# Altium integrated library Infineon_Microcontroller.IntLib: 721 symbols (part 32 of 66)
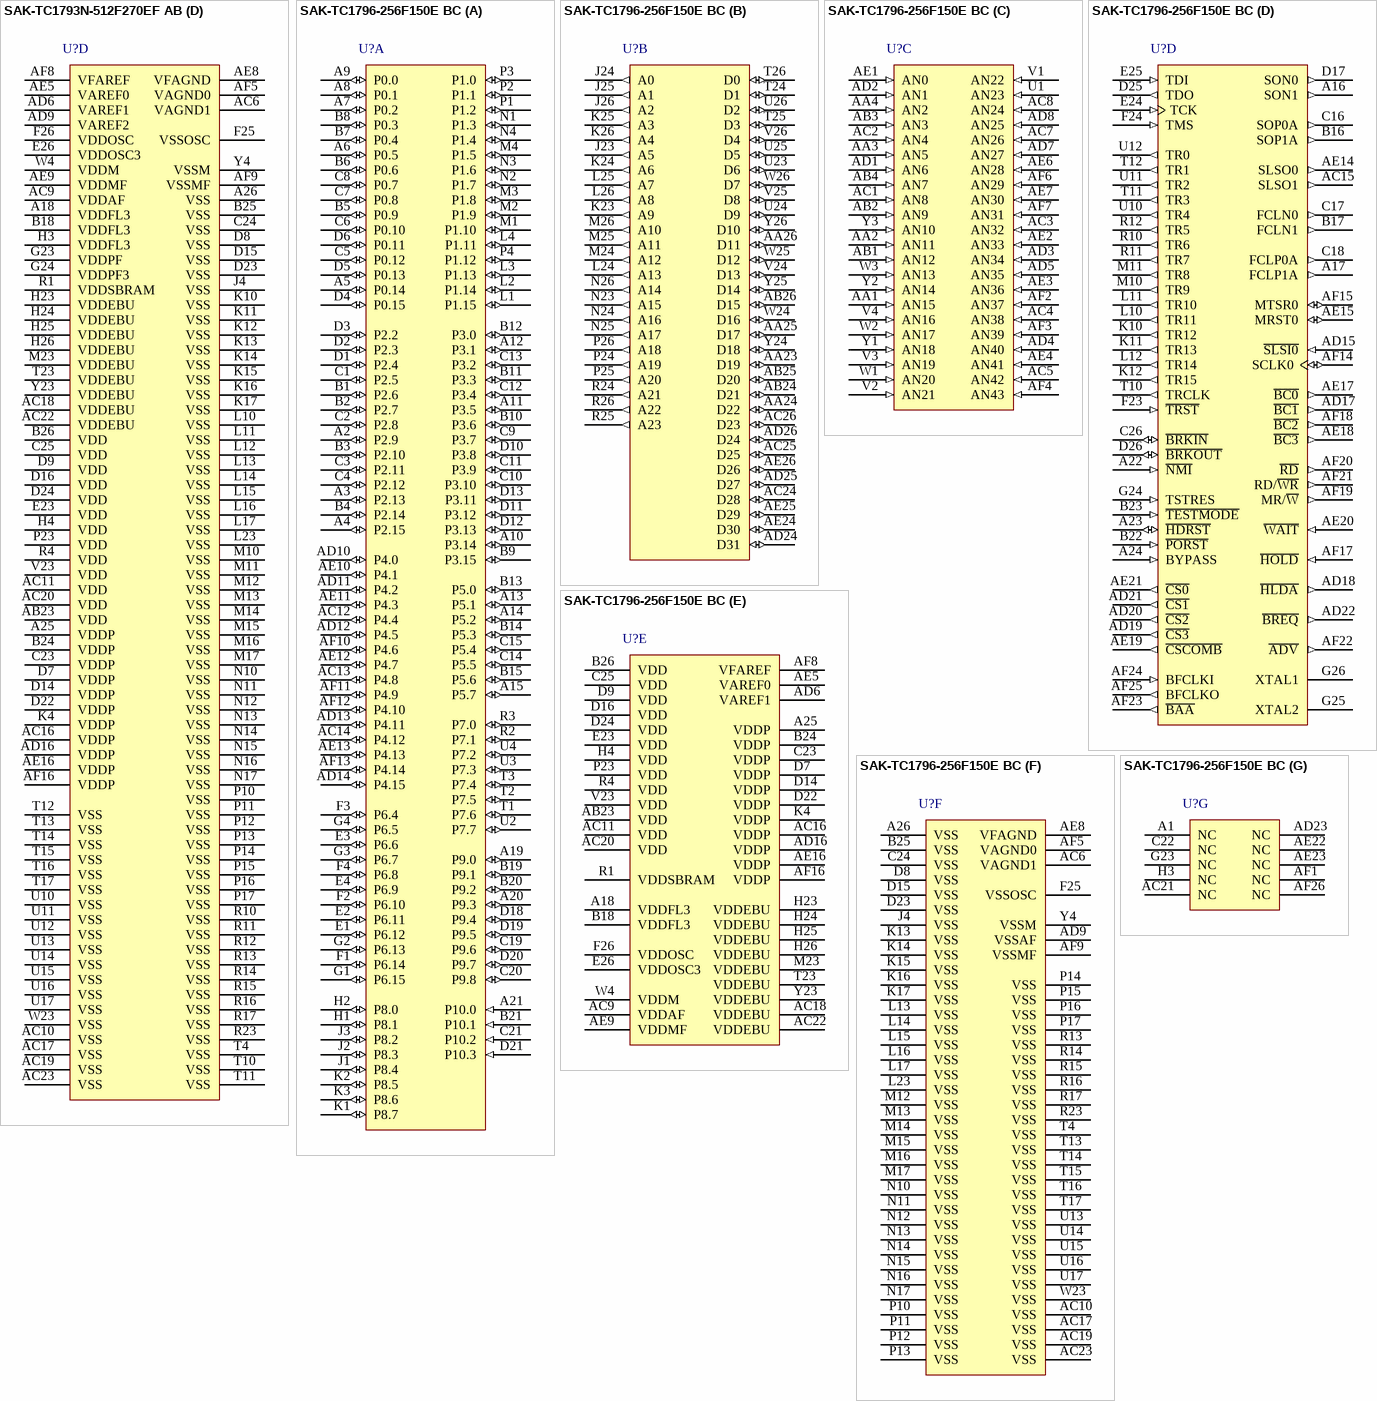
[diagram p149: symbols SAK-TC1793N-512F270EF AB to SAK-TC1796-256F150E BC]

## SAK-TC1793N-512F270EF AB
designator U?
270 MHz AUDO MCU with 4 MB Program Memory, 288 KByte SRAM, 3.3 V, -40 to 125 degC, PG-BGA-416, Reel, Green; Manufacturer: Infineon; PartNumber: SAK-TC1793N-512F270EF AB; A / D input lines (incl. FADC): 44; CAN Nodes: 4; Digital I/O Lines: 221; DMA Channels: 24; DSP functionality (e.g MDU/MAC): TRUE; FlexRay TM: FALSE; I/O Operation Voltages: 3.3 V; Instruction set architecture: TriCore v1.6; Instruction width [bits]: 32/16; LIN BSL loader (for fast Flash programming): FALSE; Max Clock Frequency: 270 MHz; Number of ADC Modules: 3; Program Memory: 4 MB; Serial I/O Interfaces: 9; Timed I/O Pins (PWM-Ch,CAPCOM): 112; Timer / Counter: 246; Type of Memory: Flash; Type of Serial I/O Interfaces: ASC(2), SSC(3), MSC(2), MLI(2); DatasheetVersion: Rev. 1.1.1; PackageVersion: V1.1.1, 12/2012; PackageReference: PG-BGA-416-22; PackageDescription: 416-Pin Plastic (Green) Ball Grid Array Package, Body 27 x 27 mm, Pitch 1 mm; E2PROM Emulation (Data-Flash): TRUE; External Bus interface: TRUE; Floating Point Unit: TRUE; Green: TRUE; Halogen-free: TRUE; On-chip clock generation: TRUE; On-chip Voltage Regulator: FALSE; Oscillator Watchdog: TRUE; Packing: Reel; Peripheral Control Processor (PCP): TRUE; Power Modes: 3; SRAM (incl. Cache): 288 KByte; Watchdog Timer: TRUE; Mounting Technology: Surface Mount; Code_JEDEC: J-STD-020C; ComponentLink1Description: Manufacturer URL; ComponentLink1URL: http://www.infineon.com/; ComponentLink2Description: Datasheet; ComponentLink2URL: http://www.infineon.com/dgdl/TC1793_DS_v111_.pdf?folderId=db3a304326dfb1300127000d958f65bb&fileId=db3a304333227b5e013368d702f5176b; ComponentLink3Description: Package Specification; ComponentLink3URL: http://www.infineon.com/dgdl/TC1793_DS_v111_.pdf?folderId=db3a304326dfb1300127000d958f65bb&fileId=db3a304333227b5e013368d702f5176b
footprint INF-PG-BGA-416-22 (BGA, 416-Balls, Body 27x27mm, Pitch 1mm)
part A pins: A2 P2.9 (io), A3 P2.13 (io), A4 P2.15 (io), A5 P0.14 (io), A6 P0.5 (io), A7 P0.2 (io), A8 P0.1 (io), A9 P0.0 (io), A10 P3.14 (io), A11 P3.5 (io), A12 P3.1 (io), A13 P5.1 (io), A14 P5.2 (io), A15 P5.7 (io), A16 P5.12 (io), A17 P5.15 (io), A19 P9.0 (io), A20 P9.3 (io), A21 P9.9 (io), AC12 P4.4 (io), AC13 P4.8 (io), AC14 P4.12 (io), AD10 P4.0 (io), AD11 P4.2 (io), AD12 P4.5 (io), AD13 P4.11 (io), AD14 P4.15 (io), AE10 P4.1 (io), AE11 P4.3 (io), AE12 P4.7 (io), AE13 P4.13 (io), AF10 P4.6 (io), AF11 P4.9 (io), AF12 P4.10 (io), AF13 P4.14 (io), B1 P2.6 (io), B2 P2.7 (io), B3 P2.10 (io), B4 P2.14 (io), B5 P0.9 (io), B6 P0.6 (io), B7 P0.4 (io), B8 P0.3 (io), B9 P3.15 (io), B10 P3.6 (io), B11 P3.3 (io), B12 P3.0 (io), B13 P5.0 (io), B14 P5.3 (io), B15 P5.6 (io), B16 P5.13 (io), B17 P5.14 (io), B19 P9.1 (io), B20 P9.2 (io), B21 P9.10 (io), C1 P2.5 (io), C2 P2.8 (io), C3 P2.11 (io), C4 P2.12 (io), C5 P0.12 (io), C6 P0.10 (io), C7 P0.8 (io), C8 P0.7 (io), C9 P3.7 (io), C10 P3.10 (io), C11 P3.9 (io), C12 P3.4 (io), C13 P3.2 (io), C14 P5.5 (io), C15 P5.4 (io), C16 P5.9 (io), C17 P5.10 (io), C18 P5.11 (io), C19 P9.6 (io), C20 P9.8 (io), C21 P9.11 (io), C26 P9.13 (io), D1 P2.4 (io), D2 P2.3 (io), D3 P2.2 (io), D4 P0.15 (io), D5 P0.13 (io), D6 P0.11 (io), D10 P3.8 (io), D11 P3.12 (io), D12 P3.13 (io), D13 P3.11 (io), D17 P5.8 (io), D18 P9.4 (io), D19 P9.5 (io), D20 P9.7 (io), D21 P9.12 (io), D26 P9.14 (io), E1 P6.12 (io), E2 P6.11 (io), E3 P6.6 (io), E4 P6.9 (io), F1 P6.14 (io), F2 P6.10 (io), F3 P6.4 (io), F4 P6.8 (io), G1 P6.15 (io), G2 P6.13 (io), G3 P6.7 (io), G4 P6.5 (io), H1 P8.1 (io), H2 P8.0 (io), J1 P8.4 (io), J2 P8.3 (io), J3 P8.2 (io), K1 P8.7 (io), K2 P8.5 (io), K3 P8.6 (io), L1 P1.15 (io), L2 P1.14 (io), L3 P1.13 (io), L4 P1.11 (io), M1 P1.10 (io), M2 P1.9 (io), M3 P1.8 (io), M4 P1.5 (io), N1 P1.3 (io), N2 P1.7 (io), N3 P1.6 (io), N4 P1.4 (io), P1 P1.2 (io), P2 P1.1 (io), P3 P1.0 (io), P4 P1.12 (io), R2 P7.1 (io), R3 P7.0 (io), T1 P7.6 (io), T2 P7.5 (io), T3 P7.4 (io), U2 P7.7 (io), U3 P7.3 (io), U4 P7.2 (io)
part B pins: AA1 P17.7/AN15 (in), AA2 P17.3/AN11 (in), AA23 P14.3 (io), AA24 P14.6 (io), AA25 P14.1 (io), AA26 P13.11 (io), AB1 P17.4/AN12 (in), AB2 P17.1/AN9 (in), AB24 P14.5 (io), AB25 P14.4 (io), AB26 P13.15 (io), AC1 P17.0/AN8 (in), AC4 P17.10/AN38 (in), AC5 P17.14/AN42 (in), AC15 P10.5 (io), AC24 P14.12 (io), AC25 P14.9 (io), AC26 P14.7 (io), AD4 P17.12/AN40 (in), AD15 P10.2 (io), AD17 P15.5 (io), AD18 P16.1 (io), AD19 P15.3 (io), AD20 P15.2 (io), AD21 P15.1 (io), AD22 P16.2 (io), AD24 P14.15 (io), AD25 P14.11 (io), AD26 P14.8 (io), AE3 P17.8/AN36 (in), AE4 P17.13/AN41 (in), AE14 P10.4 (io), AE15 P10.0 (io), AE17 P15.4 (io), AE18 P15.7 (io), AE19 P16.3 (io), AE20 P15.11 (io), AE21 P15.0 (io), AE24 P14.14 (io), AE25 P14.13 (io), AE26 P14.10 (io), AF2 P17.9/AN37 (in), AF3 P17.11/AN39 (in), AF4 P17.15/AN43 (in), AF14 P10.3 (io), AF15 P10.1 (io), AF17 P16.0 (io), AF18 P15.6 (io), AF19 P15.12 (io), AF20 P15.8 (io), AF21 P15.9 (io), AF22 P15.10 (io), AF23 P15.13 (io), AF24 P15.14 (io), AF25 P15.15 (io), J23 P11.3 (io), J24 P12.6 (io), J25 P12.7 (io), J26 P11.0 (io), K23 P11.7 (io), K24 P11.4 (io), K25 P11.1 (io), K26 P11.2 (io), L24 P11.11 (io), L25 P11.5 (io), L26 P11.6 (io), M24 P11.10 (io), M25 P11.9 (io), M26 P11.8 (io), N23 P11.13 (io), N24 P11.14 (io), N25 P11.15 (io), N26 P11.12 (io), P24 P12.1 (io), P25 P12.2 (io), P26 P12.0 (io), R24 P12.3 (io), R25 P12.5 (io), R26 P12.4 (io), T24 P13.1 (io), T25 P13.3 (io), T26 P13.0 (io), U23 P13.6 (io), U24 P13.9 (io), U25 P13.5 (io), U26 P13.2 (io), V24 P13.13 (io), V25 P13.8 (io), V26 P13.4 (io), W3 P17.5/AN13 (in), W24 P14.0 (io), W25 P13.12 (io), W26 P13.7 (io), Y2 P17.6/AN14 (in), Y3 P17.2/AN10 (in), Y24 P14.2 (io), Y25 P13.14 (io), Y26 P13.10 (io)
part C pins: A1 NC "Not connected.", A22 ~{ESR1} (io) "External System Request Reset Input 1", A23 ~{ESR0} (io) "External System Request Reset Input 0", A24 NC "Not connected.", AA3 AN5 (in) "Analog Input 5: ADC0.CH5, ADC2.CH13", AA4 AN2 (in) "Analog Input 2: ADC0.CH2", AB3 AN3 (in) "Analog Input 3: ADC0.CH3", AB4 AN7 (in) "Analog Input 7: ADC0.CH7, ADC2.CH15", AC2 AN4 (in) "Analog Input 4: ADC0.CH4, ADC2.CH12", AC3 AN32 (in) "Analog Input 32: ADC2.CH0", AC7 AN26 (in) "Analog Input 26: ADC1.CH10, FADC_FADIN1P", AC8 AN24 (in) "Analog Input 24: ADC1.CH8, FADC_FADIN0P", AC21 NC "Not connected.", AD1 AN6 (in) "Analog Input 6: ADC0.CH6, ADC2.CH14", AD2 AN1 (in) "Analog Input 1: ADC0.CH1", AD3 AN34 (in) "Analog Input 34: ADC2.CH2", AD5 AN35 (in) "Analog Input 35: ADC2.CH3", AD7 AN27 (in) "Analog Input 27: ADC1.CH11, FADC_FADIN1N", AD8 AN25 (in) "Analog Input 25: ADC1.CH9, FADC_FADIN0N", AD23 NC "Not connected.", AE1 AN0 (in) "Analog Input 0: ADC0.CH0", AE2 AN33 (in) "Analog Input 33: ADC2.CH1", AE6 AN28 (in) "Analog Input 28: ADC1.CH12, FADC_FADIN2P", AE7 AN30 (in) "Analog Input 30: ADC1.CH14, FADC_FADIN3P", AE22 NC "Not connected.", AE23 NC "Not connected.", AF1 NC "Not connected.", AF6 AN29 (in) "Analog Input 29: ADC1.CH13, FADC_FADIN2N", AF7 AN31 (in) "Analog Input 31: ADC1.CH15, FADC_FADIN3N", AF26 NC "Not connected.", B22 ~{PORST} (in) "Power-on Reset Input", B23 ~{TESTMODE} (in) "Test Mode Select Input", C22 NC "Not connected.", D25 TDO (io), E24 TCK (in), E25 TDI (io), F23 ~{TRST} (in) "JTAG Module Reset/Enable Input", F24 TMS (io), G25 XTAL2 "Main Oscillator/PLL/Clock Generator Output", G26 XTAL1 "Main Oscillator/PLL/Clock Generator Input", U1 AN23 (in) "Analog Input 23: ADC1.CH7", V1 AN22 (in) "Analog Input 22: ADC1.CH6", V2 AN21 (in) "Analog Input 21: ADC1.CH5", V3 AN19 (in) "Analog Input 19: ADC1.CH3", V4 AN16 (in) "Analog Input 16: ADC1.CH0", W1 AN20 (in) "Analog Input 20: ADC1.CH4", W2 AN17 (in) "Analog Input 17: ADC1.CH1", Y1 AN18 (in) "Analog Input 18: ADC1.CH2"
part D pins: A18 VDDFL3 (power) "Flash Power Supply (3.3V)", A25 VDDP (power) "Port Power Supply (3.3V)", A26 VSS (power) "Digital Ground (outer balls)", AB23 VDD (power) "Digital Core Power Supply (1.3V)", AC6 VAGND1 (power) "ADC1 Reference Ground", AC9 VDDAF (power) "FADC Analog Part Logic Power Supply (1.3V)", AC10 VSS (power) "Digital Ground (outer balls)", AC11 VDD (power) "Digital Core Power Supply (1.3V)", AC16 VDDP (power) "Port Power Supply (3.3V)", AC17 VSS (power) "Digital Ground (outer balls)", AC18 VDDEBU (power) "EBU Port Power Supply (1.8V - 2.5V - 3.3V)", AC19 VSS (power) "Digital Ground (outer balls)", AC20 VDD (power) "Digital Core Power Supply (1.3V)", AC22 VDDEBU (power) "EBU Port Power Supply (1.8V - 2.5V - 3.3V)", AC23 VSS (power) "Digital Ground (outer balls)", AD6 VAREF1 (power) "ADC1 Reference Voltage", AD9 VAREF2 (power) "ADC2 Reference Voltage", AD16 VDDP (power) "Port Power Supply (3.3V)", AE5 VAREF0 (power) "ADC0 Reference Voltage", AE8 VFAGND (power) "FADC Reference Ground", AE9 VDDMF (power) "FADC Analog Part Power Supply (3.3V)", AE16 VDDP (power) "Port Power Supply (3.3V)", AF5 VAGND0 (power), AF8 VFAREF (power) "FADC Reference Voltage", AF9 VSSMF (power), AF16 VDDP (power) "Port Power Supply (3.3V)", B18 VDDFL3 (power) "Flash Power Supply (3.3V)", B24 VDDP (power) "Port Power Supply (3.3V)", B25 VSS (power) "Digital Ground (outer balls)", B26 VDD (power) "Digital Core Power Supply (1.3V)", C23 VDDP (power) "Port Power Supply (3.3V)", C24 VSS (power) "Digital Ground (outer balls)", C25 VDD (power) "Digital Core Power Supply (1.3V)", D7 VDDP (power) "Port Power Supply (3.3V)", D8 VSS (power) "Digital Ground (outer balls)", D9 VDD (power) "Digital Core Power Supply (1.3V)", D14 VDDP (power) "Port Power Supply (3.3V)", D15 VSS (power) "Digital Ground (outer balls)", D16 VDD (power) "Digital Core Power Supply (1.3V)", D22 VDDP (power) "Port Power Supply (3.3V)", D23 VSS (power) "Digital Ground (outer balls)", D24 VDD (power) "Digital Core Power Supply (1.3V)", E23 VDD (power) "Digital Core Power Supply (1.3V)", E26 VDDOSC3 (power) "Main Oscillator Power Supply (3.3V)", F25 VSSOSC (power), F26 VDDOSC (power) "Main Oscillator Power Supply (1.3V)", G23 VDDPF (power) "E-Ray PLL Power Supply (1.3V)", G24 VDDPF3 (power) "E-Ray PLL Power Supply (3.3V)", H3 VDDFL3 (power) "Flash Power Supply (3.3V)", H4 VDD (power) "Digital Core Power Supply (1.3V)", H23 VDDEBU (power) "EBU Port Power Supply (1.8V - 2.5V - 3.3V)", H24 VDDEBU (power) "EBU Port Power Supply (1.8V - 2.5V - 3.3V)", H25 VDDEBU (power) "EBU Port Power Supply (1.8V - 2.5V - 3.3V)", H26 VDDEBU (power) "EBU Port Power Supply (1.8V - 2.5V - 3.3V)", J4 VSS (power) "Digital Ground (outer balls)", K4 VDDP (power) "Port Power Supply (3.3V)", K10 VSS (power) "Digital Ground (center balls)", K11 VSS (power) "Digital Ground (center balls)", K12 VSS (power) "Digital Ground (center balls)", K13 VSS (power) "Digital Ground (center balls)", K14 VSS (power) "Digital Ground (center balls)", K15 VSS (power) "Digital Ground (center balls)", K16 VSS (power) "Digital Ground (center balls)", K17 VSS (power) "Digital Ground (center balls)", L10 VSS (power) "Digital Ground (center balls)", L11 VSS (power) "Digital Ground (center balls)", L12 VSS (power) "Digital Ground (center balls)", L13 VSS (power) "Digital Ground (center balls)", L14 VSS (power) "Digital Ground (center balls)", L15 VSS (power) "Digital Ground (center balls)", L16 VSS (power) "Digital Ground (center balls)", L17 VSS (power) "Digital Ground (center balls)", L23 VSS (power) "Digital Ground (outer balls)", M10 VSS (power) "Digital Ground (center balls)", M11 VSS (power) "Digital Ground (center balls)", M12 VSS (power) "Digital Ground (center balls)", M13 VSS (power) "Digital Ground (center balls)", M14 VSS (power) "Digital Ground (center balls)", M15 VSS (power) "Digital Ground (center balls)", M16 VSS (power) "Digital Ground (center balls)", M17 VSS (power) "Digital Ground (center balls)", M23 VDDEBU (power) "EBU Port Power Supply (1.8V - 2.5V - 3.3V)", N10 VSS (power) "Digital Ground (center balls)", N11 VSS (power) "Digital Ground (center balls)", N12 VSS (power) "Digital Ground (center balls)", N13 VSS (power) "Digital Ground (center balls)", N14 VSS (power) "Digital Ground (center balls)", N15 VSS (power) "Digital Ground (center balls)", N16 VSS (power) "Digital Ground (center balls)", N17 VSS (power) "Digital Ground (center balls)", P10 VSS (power) "Digital Ground (center balls)", P11 VSS (power) "Digital Ground (center balls)", P12 VSS (power) "Digital Ground (center balls)", P13 VSS (power) "Digital Ground (center balls)", P14 VSS (power) "Digital Ground (center balls)", P15 VSS (power) "Digital Ground (center balls)", P16 VSS (power) "Digital Ground (center balls)", P17 VSS (power) "Digital Ground (center balls)", P23 VDD (power) "Digital Core Power Supply (1.3V)", R1 VDDSBRAM (power) "Emulation Stand-by SRAM Power Supply (1.3V) (Emulation device only)", R4 VDD (power) "Digital Core Power Supply (1.3V)", R10 VSS (power) "Digital Ground (center balls)", R11 VSS (power) "Digital Ground (center balls)", R12 VSS (power) "Digital Ground (center balls)", R13 VSS (power) "Digital Ground (center balls)", R14 VSS (power) "Digital Ground (center balls)", R15 VSS (power) "Digital Ground (center balls)", R16 VSS (power) "Digital Ground (center balls)", R17 VSS (power) "Digital Ground (center balls)", R23 VSS (power) "Digital Ground (outer balls)", T4 VSS (power) "Digital Ground (outer balls)", T10 VSS (power) "Digital Ground (center balls)", T11 VSS (power) "Digital Ground (center balls)", T12 VSS (power) "Digital Ground (center balls)", T13 VSS (power) "Digital Ground (center balls)", T14 VSS (power) "Digital Ground (center balls)", T15 VSS (power) "Digital Ground (center balls)", T16 VSS (power) "Digital Ground (center balls)", T17 VSS (power) "Digital Ground (center balls)", T23 VDDEBU (power) "EBU Port Power Supply (1.8V - 2.5V - 3.3V)", U10 VSS (power) "Digital Ground (center balls)", U11 VSS (power) "Digital Ground (center balls)", U12 VSS (power) "Digital Ground (center balls)", U13 VSS (power) "Digital Ground (center balls)", U14 VSS (power) "Digital Ground (center balls)", U15 VSS (power) "Digital Ground (center balls)", U16 VSS (power) "Digital Ground (center balls)", U17 VSS (power) "Digital Ground (center balls)", V23 VDD (power) "Digital Core Power Supply (1.3V)", W4 VDDM (power) "ADC Analog Part Power Supply (3.3V - 5V)", W23 VSS (power) "Digital Ground (outer balls)", Y4 VSSM (power) "ADC Analog Part Ground", Y23 VDDEBU (power) "EBU Port Power Supply (1.8V - 2.5V - 3.3V)"

## SAK-TC1796-256F150E BC
designator U?
150 MHz AUDO MCU with 2 MB Program Memory, 256 KByte SRAM, 3.3 V, -40 to 125 degC, P-BGA-416, Reel, Green; Manufacturer: Infineon; PartNumber: SAK-TC1796-256F150E BC; A / D input lines (incl. FADC): 44; CAN Nodes: 4; Digital I/O Lines: 123; DMA Channels: 16; DSP functionality (e.g MDU/MAC): TRUE; FlexRay TM: FALSE; I/O Operation Voltages: 3.3 V; Instruction set architecture: TriCore v1.3; Instruction width [bits]: 32/16; LIN BSL loader (for fast Flash programming): FALSE; Max Clock Frequency: 150 MHz; Number of ADC Modules: 3; Program Memory: 2 MB; Serial I/O Interfaces: 8; Timed I/O Pins (PWM-Ch,CAPCOM): 56; Timer / Counter: 260; Type of Memory: Flash; Type of Serial I/O Interfaces: ASC(2), SSC(2), MSC(2), MLI(2); DatasheetVersion: Rev. 1.0; PackageVersion: Feb-08; PackageReference: PG-BGA-416-4; PackageDescription: 416-Pin Plastic (Green) Ball Grid Array Package, Body 27 x 27 mm, Pitch 1 mm; Supplier 1: Digi-Key; Supplier Part Number 1: SAK-TC1796-256F150E BC-ND; E2PROM Emulation (Data-Flash): TRUE; External Bus interface: TRUE; Floating Point Unit: TRUE; On-chip clock generation: TRUE; On-chip Voltage Regulator: FALSE; Oscillator Watchdog: TRUE; Packing: Reel; Peripheral Control Processor (PCP): TRUE; Power Modes: 4; SRAM (incl. Cache): 256 KByte; Watchdog Timer: TRUE; Mounting Technology: Surface Mount; ComponentLink1Description: Manufacturer URL; ComponentLink1URL: http://www.infineon.com/; ComponentLink2Description: Datasheet; ComponentLink2URL: http://www.infineon.com/dgdl/TC1796_ds_V10.pdf?folderId=db3a304412b407950112b408e8c90004&fileId=db3a304412b407950112b41beed22cd3; ComponentLink3Description: Package Specification; ComponentLink3URL: http://www.infineon.com/dgdl/PG-BGA-416-4%2C-10%2C-13%2C-14-Package_Overview.pdf?folderId=db3a304317a748360117ac3a3cfd7449&fileId=db3a304317a748360117b12de3bd682e
footprint INF-PG-BGA-416-4 (BGA, 416-Balls, Body 27x27mm, Pitch 1mm)
part A pins: A2 P2.9 (io), A3 P2.13 (io), A4 P2.15 (io), A5 P0.14 (io) "Port 0 I/O line 14", A6 P0.5 (io) "Port 0 I/O line 5", A7 P0.2 (io) "Port 0 I/O line 2", A8 P0.1 (io) "Port 0 I/O line 1", A9 P0.0 (io) "Port 0 I/O line 0", A10 P3.14 (io), A11 P3.5 (io), A12 P3.1 (io), A13 P5.1 (io), A14 P5.2 (io), A15 P5.7 (io), A19 P9.0 (io), A20 P9.3 (io), A21 P10.0 (in), AC12 P4.4 (io), AC13 P4.8 (io), AC14 P4.12 (io), AD10 P4.0 (io), AD11 P4.2 (io), AD12 P4.5 (io), AD13 P4.11 (io), AD14 P4.15 (io), AE10 P4.1 (io), AE11 P4.3 (io), AE12 P4.7 (io), AE13 P4.13 (io), AF10 P4.6 (io), AF11 P4.9 (io), AF12 P4.10 (io), AF13 P4.14 (io), B1 P2.6 (io), B2 P2.7 (io), B3 P2.10 (io), B4 P2.14 (io), B5 P0.9 (io) "Port 0 I/O line 9", B6 P0.6 (io) "Port 0 I/O line 6", B7 P0.4 (io) "Port 0 I/O line 4", B8 P0.3 (io) "Port 0 I/O line 3", B9 P3.15 (io), B10 P3.6 (io), B11 P3.3 (io), B12 P3.0 (io), B13 P5.0 (io), B14 P5.3 (io), B15 P5.6 (io), B19 P9.1 (io), B20 P9.2 (io), B21 P10.1 (in), C1 P2.5 (io), C2 P2.8 (io), C3 P2.11 (io), C4 P2.12 (io), C5 P0.12 (io) "Port 0 I/O line 12", C6 P0.10 (io) "Port 0 I/O line 10", C7 P0.8 (io) "Port 0 I/O line 8", C8 P0.7 (io) "Port 0 I/O line 7", C9 P3.7 (io), C10 P3.10 (io), C11 P3.9 (io), C12 P3.4 (io), C13 P3.2 (io), C14 P5.5 (io), C15 P5.4 (io), C19 P9.6 (io), C20 P9.8 (io), C21 P10.2 (in), D1 P2.4 (io), D2 P2.3 (io), D3 P2.2 (io), D4 P0.15 (io) "Port 0 I/O line 15", D5 P0.13 (io) "Port 0 I/O line 13", D6 P0.11 (io) "Port 0 I/O line 11", D10 P3.8 (io), D11 P3.12 (io), D12 P3.13 (io), D13 P3.11 (io), D18 P9.4 (io), D19 P9.5 (io), D20 P9.7 (io), D21 P10.3 (in), E1 P6.12 (io), E2 P6.11 (io), E3 P6.6 (io), E4 P6.9 (io), F1 P6.14 (io), F2 P6.10 (io), F3 P6.4 (io), F4 P6.8 (io), G1 P6.15 (io), G2 P6.13 (io), G3 P6.7 (io), G4 P6.5 (io), H1 P8.1 (io), H2 P8.0 (io), J1 P8.4 (io), J2 P8.3 (io), J3 P8.2 (io), K1 P8.7 (io), K2 P8.5 (io), K3 P8.6 (io), L1 P1.15 (io), L2 P1.14 (io), L3 P1.13 (io), L4 P1.11 (io), M1 P1.10 (io), M2 P1.9 (io), M3 P1.8 (io), M4 P1.5 (io), N1 P1.3 (io), N2 P1.7 (io), N3 P1.6 (io), N4 P1.4 (io), P1 P1.2 (io), P2 P1.1 (io), P3 P1.0 (io), P4 P1.12 (io), R2 P7.1 (io), R3 P7.0 (io), T1 P7.6 (io), T2 P7.5 (io), T3 P7.4 (io), U2 P7.7 (io), U3 P7.3 (io), U4 P7.2 (io)
part B pins: AA23 D19 (io) "Data bus line 19", AA24 D22 (io) "Data bus line 22", AA25 D17 (io) "Data bus line 17", AA26 D11 (io) "Data bus line 11", AB24 D21 (io) "Data bus line 21", AB25 D20 (io) "Data bus line 20", AB26 D15 (io) "Data bus line 15", AC24 D28 (io) "Data bus line 28", AC25 D25 (io) "Data bus line 25", AC26 D23 (io) "Data bus line 23", AD24 D31 (io) "Data bus line 31", AD25 D27 (io) "Data bus line 27", AD26 D24 (io) "Data bus line 24", AE24 D30 (io) "Data bus line 30", AE25 D29 (io) "Data bus line 29", AE26 D26 (io) "Data bus line 26", J23 A5 (out) "Address bus line 5", J24 A0 (out) "Address bus line 0", J25 A1 (out) "Address bus line 1", J26 A2 (out) "Address bus line 2", K23 A9 (out) "Address bus line 9", K24 A6 (out) "Address bus line 6", K25 A3 (out) "Address bus line 3", K26 A4 (out) "Address bus line 4", L24 A13 (out) "Address bus line 13", L25 A7 (out) "Address bus line 7", L26 A8 (out) "Address bus line 8", M24 A12 (out) "Address bus line 12", M25 A11 (out) "Address bus line 11", M26 A10 (out) "Address bus line 10", N23 A15 (out) "Address bus line 15", N24 A16 (out) "Address bus line 16", N25 A17 (out) "Address bus line 17", N26 A14 (out) "Address bus line 14", P24 A19 (out) "Address bus line 19", P25 A20 (out) "Address bus line 20", P26 A18 (out) "Address bus line 18", R24 A21 (out) "Address bus line 21", R25 A23 (out) "Address bus line 23", R26 A22 (out) "Address bus line 22", T24 D1 (io) "Data bus line 1", T25 D3 (io) "Data bus line 3", T26 D0 (io) "Data bus line 0", U23 D6 (io) "Data bus line 6", U24 D9 (io) "Data bus line 9", U25 D5 (io) "Data bus line 5", U26 D2 (io) "Data bus line 2", V24 D13 (io) "Data bus line 13", V25 D8 (io) "Data bus line 8", V26 D4 (io) "Data bus line 4", W24 D16 (io) "Data bus line 16", W25 D12 (io) "Data bus line 12", W26 D7 (io) "Data bus line 7", Y24 D18 (io) "Data bus line 18", Y25 D14 (io) "Data bus line 14", Y26 D10 (io) "Data bus line 10"
part C pins: AA1 AN15 (in) "Analog input 15", AA2 AN11 (in) "Analog input 11", AA3 AN5 (in) "Analog input 5", AA4 AN2 (in) "Analog input 2", AB1 AN12 (in) "Analog input 12", AB2 AN9 (in) "Analog input 9", AB3 AN3 (in) "Analog input 3", AB4 AN7 (in) "Analog input 7", AC1 AN8 (in) "Analog input 8", AC2 AN4 (in) "Analog input 4", AC3 AN32 (in) "Analog input 32", AC4 AN38 (in) "Analog input 38", AC5 AN42 (in) "Analog input 42", AC7 AN26 (in) "Analog input 26", AC8 AN24 (in) "Analog input 24", AD1 AN6 (in) "Analog input 6", AD2 AN1 (in) "Analog input 1", AD3 AN34 (in) "Analog input 34", AD4 AN40 (in) "Analog input 40", AD5 AN35 (in) "Analog input 35", AD7 AN27 (in) "Analog input 27", AD8 AN25 (in) "Analog input 25", AE1 AN0 (in) "Analog input 0", AE2 AN33 (in) "Analog input 33", AE3 AN36 (in) "Analog input 36", AE4 AN41 (in) "Analog input 41", AE6 AN28 (in) "Analog input 28", AE7 AN30 (in) "Analog input 30", AF2 AN37 (in) "Analog input 37", AF3 AN39 (in) "Analog input 39", AF4 AN43 (in) "Analog input 43", AF6 AN29 (in) "Analog input 29", AF7 AN31 (in) "Analog input 31", U1 AN23 (in) "Analog input 23", V1 AN22 (in) "Analog input 22", V2 AN21 (in) "Analog input 21", V3 AN19 (in) "Analog input 19", V4 AN16 (in) "Analog input 16", W1 AN20 (in) "Analog input 20", W2 AN17 (in) "Analog input 17", W3 AN13 (in) "Analog input 13", Y1 AN18 (in) "Analog input 18", Y2 AN14 (in) "Analog input 14", Y3 AN10 (in) "Analog input 10"
part D pins: A16 SON1 (out) "MSC1 differential driver serial data output negative", A17 FCLP1A (out) "MSC1 differential driver clock output positive A", A22 ~{NMI} (in) "Non-Maskable Interrupt Input (input pad with input spike-filter.)", A23 ~{HDRST} (io) "Hardware Reset Input / Reset Indication Output (open drain pad with input spike-filter.)", A24 BYPASS (in) "PLL Bypass Select Input This input has to be held stable between to power-on resets. With BYPASS = 1 the spike filters in the H\D\R\S\T\, P\O\R\S\T\, and N\M\I\ inputs are switched off.", AC15 SLSO1 (out) "SSC0 Slave Select Output Line 1", AD15 ~{SLSI0} (in) "SSC0 Slave Select Input", AD17 ~{BC1} (out) "Byte control line 1", AD18 ~{HLDA} (out) "Hold Acknowledge Output", AD19 ~{CS3} (out) "Chip select output line 3", AD20 ~{CS2} (out) "Chip select output line 2", AD21 ~{CS1} (out) "Chip select output line 1", AD22 ~{BREQ} (out) "Bus Request Output", AE14 SLSO0 (out) "SSC0 Slave Select Output Line 0", AE15 MRST0 (io) "SSC0 Master Receive Input / SSC0 Slave Transmit Output", AE17 ~{BC0} (out) "Byte control line 0", AE18 ~{BC3} (out) "Byte control line 3", AE19 ~{CSCOMB} (out) "Combined Chip Select Output for Global Select / Emulator Memory Region/Emulator Overlay Memory", AE20 ~{WAIT} (in) "Wait Input for inserting Wait-States", AE21 ~{CS0} (out) "Chip select output line 0", AF14 SCLK0 (io) "SSC0 Clock Input/Output", AF15 MTSR0 (io) "SSC0 Master Transmit Output / SSC0 Slave Receive Input", AF17 ~{HOLD} (in) "Hold Request Input", AF18 ~{BC2} (out) "Byte control line 2", AF19 MR/~{W} (out) "Motorola-style Read/Write Control Signal", AF20 ~{RD} (out) "Read Control Line", AF21 RD/~{WR} (out) "Write Control Line", AF22 ~{ADV} (out) "Address Valid Output", AF23 ~{BAA} (out) "Burst Address Advance Output", AF24 BFCLKI (in) "Burst Mode Flash Clock Input (feedback clock)", AF25 BFCLKO (out) "Burst Mode Flash Clock Output (non-differential)", B16 SOP1A (out) "MSC1 differential driver serial data output positive A", B17 FCLN1 (out) "MSC1 differential driver clock output negative", B22 ~{PORST} (in) "Power-on Reset Input (input pad with input spike-filter.)", B23 ~{TESTMODE} (in) "Test Mode Select Input For normal operation of the TC1796, this pin should be connected to high level. (input pad, test function only, without input spike-filter.)", C16 SOP0A (out) "MSC0 differential driver serial data output positive A", C17 FCLN0 (out) "MSC0 differential driver clock output negative", C18 FCLP0A (out) "MSC0 differential driver clock output positive A", C26 ~{BRKIN} (io) "OCDS Break Input (Alternate Output)", D17 SON0 (out) "MSC0 differential driver serial data output negative", D25 TDO (out) "JTAG Module Serial Data Output", D26 ~{BRKOUT} (io) "OCDS Break Output (Alternate Input)", E24 TCK (in) "JTAG Module Clock Input", E25 TDI (in) "JTAG Module Serial Data Input", F23 ~{TRST} (in) "JTAG Module Reset/Enable Input", F24 TMS (in) "JTAG Module State Machine Control Input", G24 TSTRES (in) "Test Reset Input For normal operation of the TC1796, this pin should be connected to low level. Otherwise an unpredictable reset behavior may occur. (input pad, test function only, without input spike-filter.)", G25 XTAL2 "Oscillator / PLL / Clock Generator Input / Output Pins", G26 XTAL1 "Oscillator / PLL / Clock Generator Input / Output Pins", K10 TR12 (out) "Trace output line 12", K11 TR13 (out) "Trace output line 13", K12 TR15 (out) "Trace output line 15", L10 TR11 (out) "Trace output line 11", L11 TR10 (out) "Trace output line 10", L12 TR14 (out) "Trace output line 14", M10 TR9 (out) "Trace output line 9", M11 TR8 (out) "Trace output line 8", R10 TR6 (out) "Trace output line 4", R11 TR7 (out) "Trace output line 7", R12 TR5 (out) "Trace output line 5", T10 TRCLK (out) "Trace Clock for OCDS Level 2 Debug Trace Lines1) (located on a center ball)", T11 TR3 (out) "Trace output line 3", T12 TR1 (out) "Trace output line 1", U10 TR4 (out) "Trace output line 4", U11 TR2 (out) "Trace output line 2", U12 TR0 (out) "Trace output line 0"
part E pins: A18 VDDFL3 (power) "Power Supply for Flash (3.3V)", A25 VDDP (power) "Port Power Supply (3.3V) (also for OCDS)", AB23 VDD (power) "Core Power Supply (1.5V)", AC9 VDDAF (power) "FADC Analog Part Log. Pow. Sup. (1.5V)", AC11 VDD (power) "Core Power Supply (1.5V)", AC16 VDDP (power) "Port Power Supply (3.3V) (also for OCDS)", AC18 VDDEBU (power) "EBU Power Supply (2.3 - 3.3V)", AC20 VDD (power) "Core Power Supply (1.5V)", AC22 VDDEBU (power) "EBU Power Supply (2.3 - 3.3V)", AD6 VAREF1 (power) "ADC1 Reference Voltage", AD16 VDDP (power) "Port Power Supply (3.3V) (also for OCDS)", AE5 VAREF0 (power) "ADC0 Reference Voltage", AE9 VDDMF (power) "FADC Analog Part Power Supply (3.3V)", AE16 VDDP (power) "Port Power Supply (3.3V) (also for OCDS)", AF8 VFAREF (power) "FADC Reference Voltage", AF16 VDDP (power) "Port Power Supply (3.3V) (also for OCDS)", B18 VDDFL3 (power) "Power Supply for Flash (3.3V)", B24 VDDP (power) "Port Power Supply (3.3V) (also for OCDS)", B26 VDD (power) "Core Power Supply (1.5V)", C23 VDDP (power) "Port Power Supply (3.3V) (also for OCDS)", C25 VDD (power) "Core Power Supply (1.5V)", D7 VDDP (power) "Port Power Supply (3.3V) (also for OCDS)", D9 VDD (power) "Core Power Supply (1.5V)", D14 VDDP (power) "Port Power Supply (3.3V) (also for OCDS)", D16 VDD (power) "Core Power Supply (1.5V)", D22 VDDP (power) "Port Power Supply (3.3V) (also for OCDS)", D24 VDD (power) "Core Power Supply (1.5V)", E23 VDD (power) "Core Power Supply (1.5V)", E26 VDDOSC3 (power) "Main Oscillator Power Supply (3.3V)", F26 VDDOSC (power) "Main Oscillator Power Supply (1.5V)", H4 VDD (power) "Core Power Supply (1.5V)", H23 VDDEBU (power) "EBU Power Supply (2.3 - 3.3V)", H24 VDDEBU (power) "EBU Power Supply (2.3 - 3.3V)", H25 VDDEBU (power) "EBU Power Supply (2.3 - 3.3V)", H26 VDDEBU (power) "EBU Power Supply (2.3 - 3.3V)", K4 VDDP (power) "Port Power Supply (3.3V) (also for OCDS)", M23 VDDEBU (power) "EBU Power Supply (2.3 - 3.3V)", P23 VDD (power) "Core Power Supply (1.5V)", R1 VDDSBRAM (power) "Power Supply for Stand-by SRAM (1.5V)", R4 VDD (power) "Core Power Supply (1.5V)", T23 VDDEBU (power) "EBU Power Supply (2.3 - 3.3V)", V23 VDD (power) "Core Power Supply (1.5V)", W4 VDDM (power) "ADC0/1 Analog Part Power Supply (3.3V)", Y23 VDDEBU (power) "EBU Power Supply (2.3 - 3.3V)"
part F pins: A26 VSS (power) "Ground 15 VSS lines are located at outer balls. 47 VSS lines are located at center balls.", AC6 VAGND1 (power) "ADC1 Reference Ground", AC10 VSS (power) "Ground 15 VSS lines are located at outer balls. 47 VSS lines are located at center balls.", AC17 VSS (power) "Ground 15 VSS lines are located at outer balls. 47 VSS lines are located at center balls.", AC19 VSS (power) "Ground 15 VSS lines are located at outer balls. 47 VSS lines are located at center balls.", AC23 VSS (power) "Ground 15 VSS lines are located at outer balls. 47 VSS lines are located at center balls.", AD9 VSSAF (power) "FADC Analog Part Log Ground for VDDAF", AE8 VFAGND (power) "FADC Reference Ground", AF5 VAGND0 (power) "ADC0 Reference Ground", AF9 VSSMF (power) "VFADC Analog Part Ground for VDDAF", B25 VSS (power) "Ground 15 VSS lines are located at outer balls. 47 VSS lines are located at center balls.", C24 VSS (power) "Ground 15 VSS lines are located at outer balls. 47 VSS lines are located at center balls.", D8 VSS (power) "Ground 15 VSS lines are located at outer balls. 47 VSS lines are located at center balls.", D15 VSS (power) "Ground 15 VSS lines are located at outer balls. 47 VSS lines are located at center balls.", D23 VSS (power) "Ground 15 VSS lines are located at outer balls. 47 VSS lines are located at center balls.", F25 VSSOSC (power) "Main Oscillator Ground", J4 VSS (power) "Ground 15 VSS lines are located at outer balls. 47 VSS lines are located at center balls.", K13 VSS (power) "Ground 15 VSS lines are located at outer balls. 47 VSS lines are located at center balls.", K14 VSS (power) "Ground 15 VSS lines are located at outer balls. 47 VSS lines are located at center balls.", K15 VSS (power) "Ground 15 VSS lines are located at outer balls. 47 VSS lines are located at center balls.", K16 VSS (power) "Ground 15 VSS lines are located at outer balls. 47 VSS lines are located at center balls.", K17 VSS (power) "Ground 15 VSS lines are located at outer balls. 47 VSS lines are located at center balls.", L13 VSS (power) "Ground 15 VSS lines are located at outer balls. 47 VSS lines are located at center balls.", L14 VSS (power) "Ground 15 VSS lines are located at outer balls. 47 VSS lines are located at center balls.", L15 VSS (power) "Ground 15 VSS lines are located at outer balls. 47 VSS lines are located at center balls.", L16 VSS (power) "Ground 15 VSS lines are located at outer balls. 47 VSS lines are located at center balls.", L17 VSS (power) "Ground 15 VSS lines are located at outer balls. 47 VSS lines are located at center balls.", L23 VSS (power) "Ground 15 VSS lines are located at outer balls. 47 VSS lines are located at center balls.", M12 VSS (power) "Ground 15 VSS lines are located at outer balls. 47 VSS lines are located at center balls.", M13 VSS (power) "Ground 15 VSS lines are located at outer balls. 47 VSS lines are located at center balls.", M14 VSS (power) "Ground 15 VSS lines are located at outer balls. 47 VSS lines are located at center balls.", M15 VSS (power) "Ground 15 VSS lines are located at outer balls. 47 VSS lines are located at center balls.", M16 VSS (power) "Ground 15 VSS lines are located at outer balls. 47 VSS lines are located at center balls.", M17 VSS (power) "Ground 15 VSS lines are located at outer balls. 47 VSS lines are located at center balls.", N10 VSS (power) "Ground 15 VSS lines are located at outer balls. 47 VSS lines are located at center balls.", N11 VSS (power) "Ground 15 VSS lines are located at outer balls. 47 VSS lines are located at center balls.", N12 VSS (power) "Ground 15 VSS lines are located at outer balls. 47 VSS lines are located at center balls.", N13 VSS (power) "Ground 15 VSS lines are located at outer balls. 47 VSS lines are located at center balls.", N14 VSS (power) "Ground 15 VSS lines are located at outer balls. 47 VSS lines are located at center balls.", N15 VSS (power) "Ground 15 VSS lines are located at outer balls. 47 VSS lines are located at center balls.", N16 VSS (power) "Ground 15 VSS lines are located at outer balls. 47 VSS lines are located at center balls.", N17 VSS (power) "Ground 15 VSS lines are located at outer balls. 47 VSS lines are located at center balls.", P10 VSS (power) "Ground 15 VSS lines are located at outer balls. 47 VSS lines are located at center balls.", P11 VSS (power) "Ground 15 VSS lines are located at outer balls. 47 VSS lines are located at center balls.", P12 VSS (power) "Ground 15 VSS lines are located at outer balls. 47 VSS lines are located at center balls.", P13 VSS (power) "Ground 15 VSS lines are located at outer balls. 47 VSS lines are located at center balls.", P14 VSS (power) "Ground 15 VSS lines are located at outer balls. 47 VSS lines are located at center balls.", P15 VSS (power) "Ground 15 VSS lines are located at outer balls. 47 VSS lines are located at center balls.", P16 VSS (power) "Ground 15 VSS lines are located at outer balls. 47 VSS lines are located at center balls.", P17 VSS (power) "Ground 15 VSS lines are located at outer balls. 47 VSS lines are located at center balls.", R13 VSS (power) "Ground 15 VSS lines are located at outer balls. 47 VSS lines are located at center balls.", R14 VSS (power) "Ground 15 VSS lines are located at outer balls. 47 VSS lines are located at center balls.", R15 VSS (power) "Ground 15 VSS lines are located at outer balls. 47 VSS lines are located at center balls.", R16 VSS (power) "Ground 15 VSS lines are located at outer balls. 47 VSS lines are located at center balls.", R17 VSS (power) "Ground 15 VSS lines are located at outer balls. 47 VSS lines are located at center balls.", R23 VSS (power) "Ground 15 VSS lines are located at outer balls. 47 VSS lines are located at center balls.", T4 VSS (power) "Ground 15 VSS lines are located at outer balls. 47 VSS lines are located at center balls.", T13 VSS (power) "Ground 15 VSS lines are located at outer balls. 47 VSS lines are located at center balls.", T14 VSS (power) "Ground 15 VSS lines are located at outer balls. 47 VSS lines are located at center balls.", T15 VSS (power) "Ground 15 VSS lines are located at outer balls. 47 VSS lines are located at center balls.", T16 VSS (power) "Ground 15 VSS lines are located at outer balls. 47 VSS lines are located at center balls.", T17 VSS (power) "Ground 15 VSS lines are located at outer balls. 47 VSS lines are located at center balls.", U13 VSS (power) "Ground 15 VSS lines are located at outer balls. 47 VSS lines are located at center balls.", U14 VSS (power) "Ground 15 VSS lines are located at outer balls. 47 VSS lines are located at center balls.", U15 VSS (power) "Ground 15 VSS lines are located at outer balls. 47 VSS lines are located at center balls.", U16 VSS (power) "Ground 15 VSS lines are located at outer balls. 47 VSS lines are located at center balls.", U17 VSS (power) "Ground 15 VSS lines are located at outer balls. 47 VSS lines are located at center balls.", W23 VSS (power) "Ground 15 VSS lines are located at outer balls. 47 VSS lines are located at center balls.", Y4 VSSM (power) "ADC0/1 Analog Part Ground for VDDM"
part G pins: A1 NC "Not Connected These pins are reserved for future extension and should not be connected externally.", AC21 NC "Not Connected These pins are reserved for future extension and should not be connected externally.", AD23 NC "Not Connected These pins are reserved for future extension and should not be connected externally.", AE22 NC "Not Connected These pins are reserved for future extension and should not be connected externally.", AE23 NC "Not Connected These pins are reserved for future extension and should not be connected externally.", AF1 NC "Not Connected These pins are reserved for future extension and should not be connected externally.", AF26 NC "Not Connected These pins are reserved for future extension and should not be connected externally.", C22 NC "Not Connected These pins are reserved for future extension and should not be connected externally.", G23 NC "Not Connected These pins are reserved for future extension and should not be connected externally.", H3 NC "Not Connected These pins are reserved for future extension and should not be connected externally."

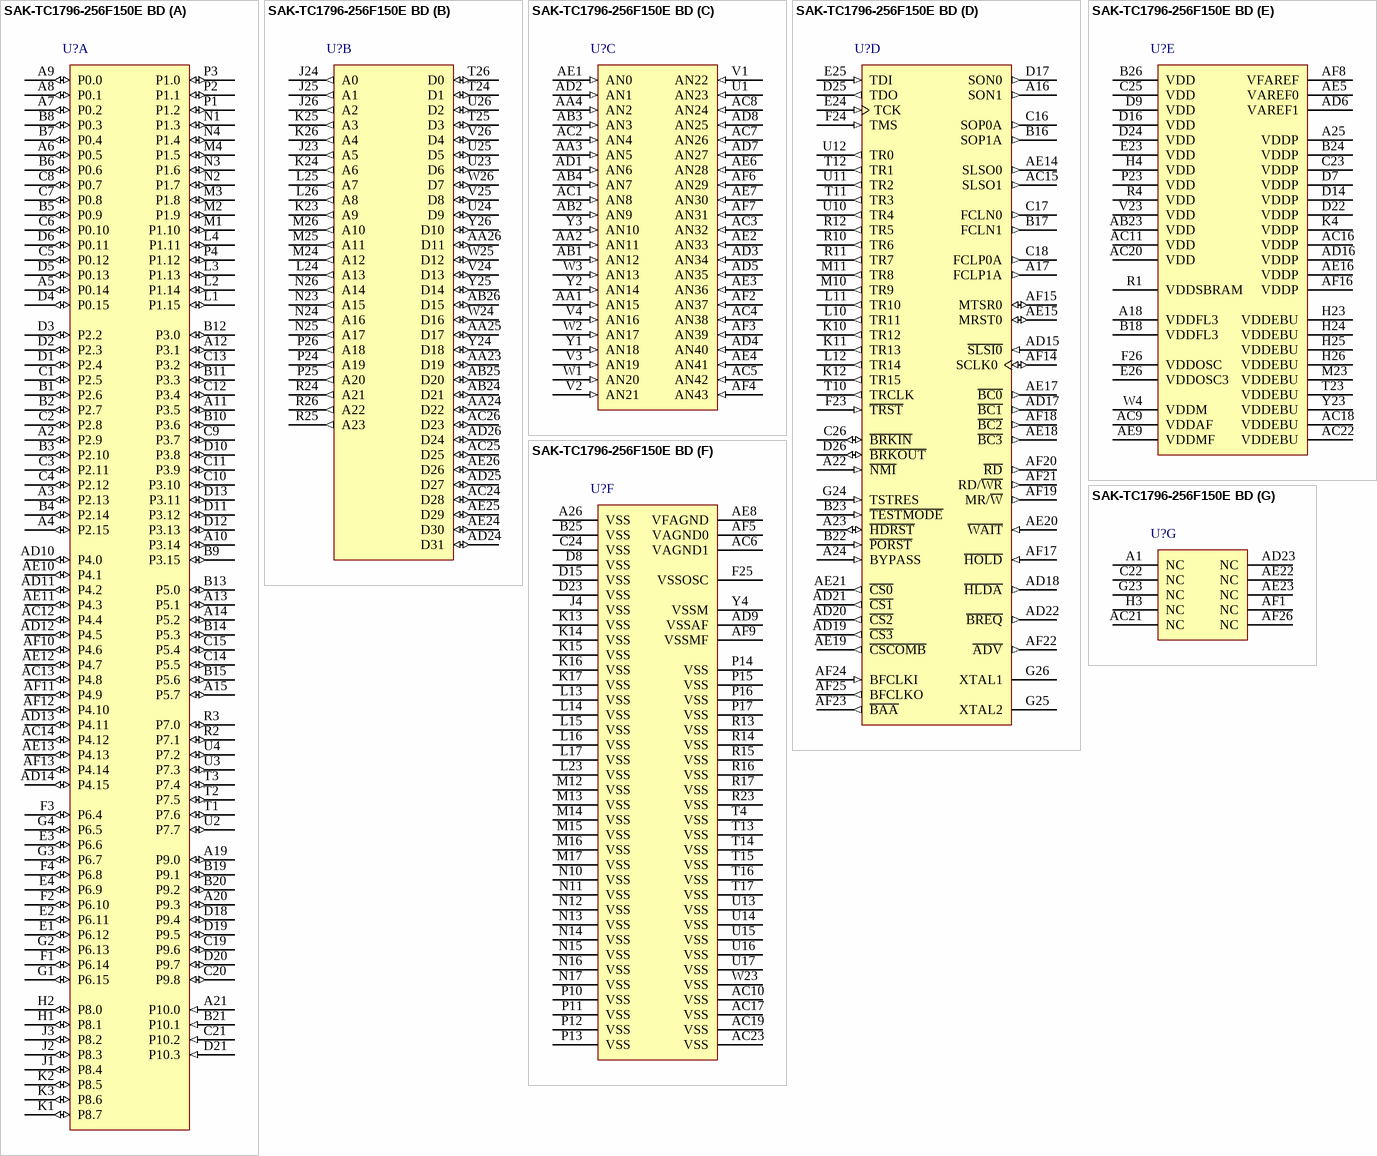
[diagram p58: symbol SAK-TC1796-256F150E BD]